# Altium footprint library 船型开关.PcbLib: 2 footprints
Each footprint in its own frame and in the unit in brackets; x right, y up, seen from the top. Pads: shape width x height; smd on the part's side, far side on the other; paste and mask are expansions set on the pad; w line width, h text height; cw(c..) or ccw(c..) is an arc to the next point about the centre after c.
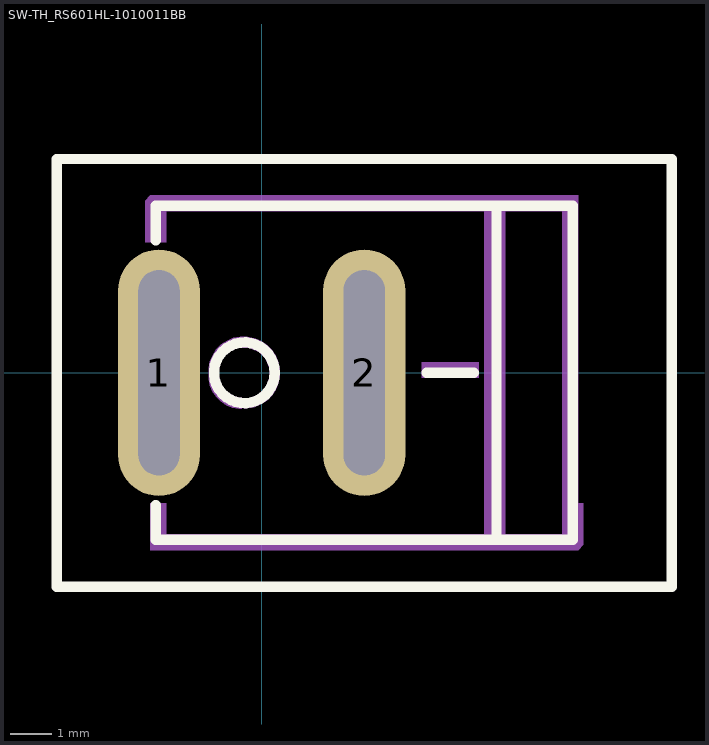
[diagram p0: the footprints below, top view; thin cyan lines are the x and y axes]

## PCBComponent_1 [mm]

## SW-TH_RS601HL-1010011BB [mm]
pads (2):
  oval 2x6 hole 1 slot 5 at 90 deg paste+0 mask+0.05: 1(-2.5,0) 2(2.5,0)
Top Overlay:
  circle w0.254: c-0.421,0 r0.741
  lines w0.254: -2.58,-3.229 -2.58,-3.683 -2.58,-4.064 7.58,-4.064 7.58,-3.229 ; -2.58,3.229 -2.58,4.064 7.58,4.064 7.58,3.229 7.58,-3.302 ; 4.024,0 5.167,0 ; 5.721,-4.064 5.721,4.064 ; -4.993,-5.207 -4.993,5.207 9.993,5.207 9.993,-5.207 -4.993,-5.207
Mechanical 6:
  region: -0.421,-0.635 -0.3,-0.623 -0.076,-0.53 0.095,-0.359 0.188,-0.135 0.2,-0.014 0.2,0 0.188,0.119 0.097,0.339 -0.071,0.507 -0.291,0.598 -0.41,0.61 -0.48,0.61 -0.589,0.599 -0.791,0.516 -0.946,0.361 -1.029,0.159 -1.04,0.05 -1.04,-0.01 -1.04,-0.05 -1.029,-0.159 -0.946,-0.361 -0.791,-0.516 -0.589,-0.599 -0.48,-0.61 -0.48,-0.88 -0.56,-0.88 -0.716,-0.849 -0.864,-0.788 -0.996,-0.699 -1.109,-0.586 -1.198,-0.454 -1.259,-0.306 -1.29,-0.15 -1.29,-0.07 -1.29,0.02 -1.29,0.03 -1.29,0.114 -1.257,0.278 -1.193,0.433 -1.1,0.572 -0.982,0.69 -0.843,0.783 -0.688,0.847 -0.524,0.88 -0.44,0.88 -0.353,0.88 -0.183,0.846 -0.023,0.78 0.121,0.684 0.243,0.561 0.34,0.417 0.406,0.257 0.44,0.087 0.44,0 0.44,-0.086 0.406,-0.254 0.341,-0.412 0.246,-0.555 0.124,-0.676 -0.018,-0.771 -0.176,-0.837 -0.344,-0.87 -0.43,-0.87
  region: 4.024,0.254 3.897,0.127 3.897,0.254
  region: 3.897,-0.127 5.294,-0.127 5.294,0.254 4.024,0.254 3.897,0.127
  region: 7.326,-3.175 7.326,-3.937 -2.326,-3.937 -2.326,-3.175 -2.707,-3.175 -2.707,-4.318 7.707,-4.318 7.834,-4.191 7.834,-3.175 7.707,-3.175
  region: 5.929,4.064 5.929,-4.064 5.421,-4.064 5.421,3.937
  region: -2.326,3.175 -2.326,3.937 7.326,3.937 7.326,-3.175 7.707,-3.175 7.707,4.318 -2.707,4.318 -2.834,4.191 -2.834,3.175 -2.707,3.175
Mechanical 15:
  region: 2.3,1.85 2.7,1.85 2.7,-1.85 2.3,-1.85
  region: -2.7,1.85 -2.3,1.85 -2.3,-1.85 -2.7,-1.85
  region: -4.94,-5.25 -4.94,-5.225 -4.975,-5.19 -5.025,-5.19 -5.06,-5.225 -5.06,-5.25 -5.06,-5.275 -5.025,-5.31 -4.975,-5.31 -4.94,-5.275 -4.94,-5.25
  lines w0.051: -5,-5.25 10,-5.25 10,5.25 -5,5.25 -5,-5.25